# EAGLE library part MC1438R (library my_mixed)
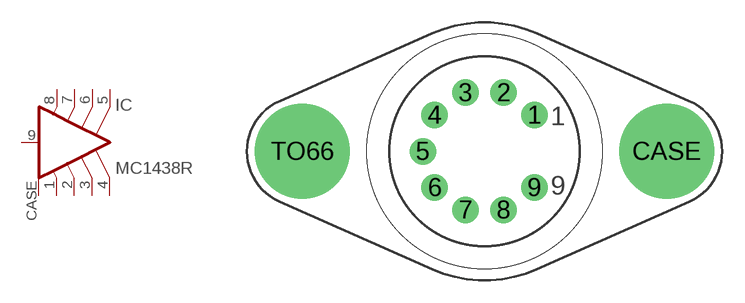
[diagram p9: symbol with the pads of TO66/9; footprint TO66/9]

Designator prefix IC

## MC1438R  [TO66/9]
1  COMPENSATION  pas
2  -CLA  pas
3  -OUT  pas
4  -CS  pas
5  +CS  pas
6  +OUT  pas
7  +CLA  pas
8  V+  pwr
9  +IN  in
CASE  V-1  pwr

## Footprint TO66/9 (pad centres in mm)
drill 1 pad 1.778: 1 3.337,2.425; 2 1.275,3.923; 3 -1.275,3.923; 4 -3.337,2.425; 5 -4.125,0; 6 -3.337,-2.425; 7 -1.275,-3.923; 8 1.275,-3.923; 9 3.337,-2.425
drill 3.302 pad 6.35: CASE 12.192,0; TO66 -12.192,0